# EAGLE library part TPPM0301 (library fottes_vol_regs)
3.3V low drop voltage regulator 400mA postive rail
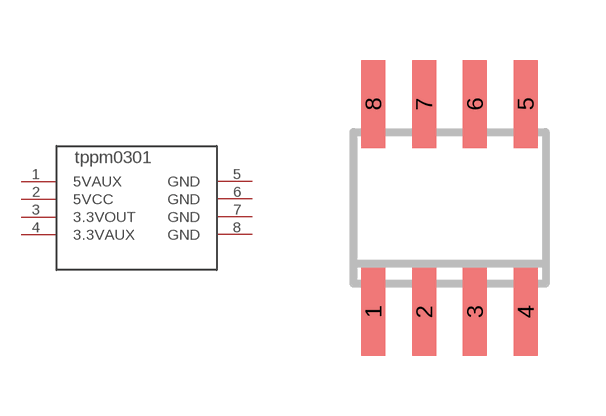
[diagram p2: symbol with the pads of SOIC8; footprint SOIC8]

Designator prefix -

## TPPM0301  [SOIC8]
1  5VAUX
2  5VCC
3  3.3VOUT
4  3.3VAUX
5  GND
6  GND
7  GND
8  GND

## Footprint SOIC8 (pad centres in mm)
Small Outline IC
smd 0.6 x 2.2: 1 -1.905,-2.6; 2 -0.635,-2.6; 3 0.635,-2.6; 4 1.905,-2.6; 5 1.905,2.6; 6 0.635,2.6; 7 -0.635,2.6; 8 -1.905,2.6